# Altium integrated library 普中-2&普中-3&普中-4封装库.IntLib: 42 symbols
Pins are listed as number, name and electrical type; pins without a type are passive.

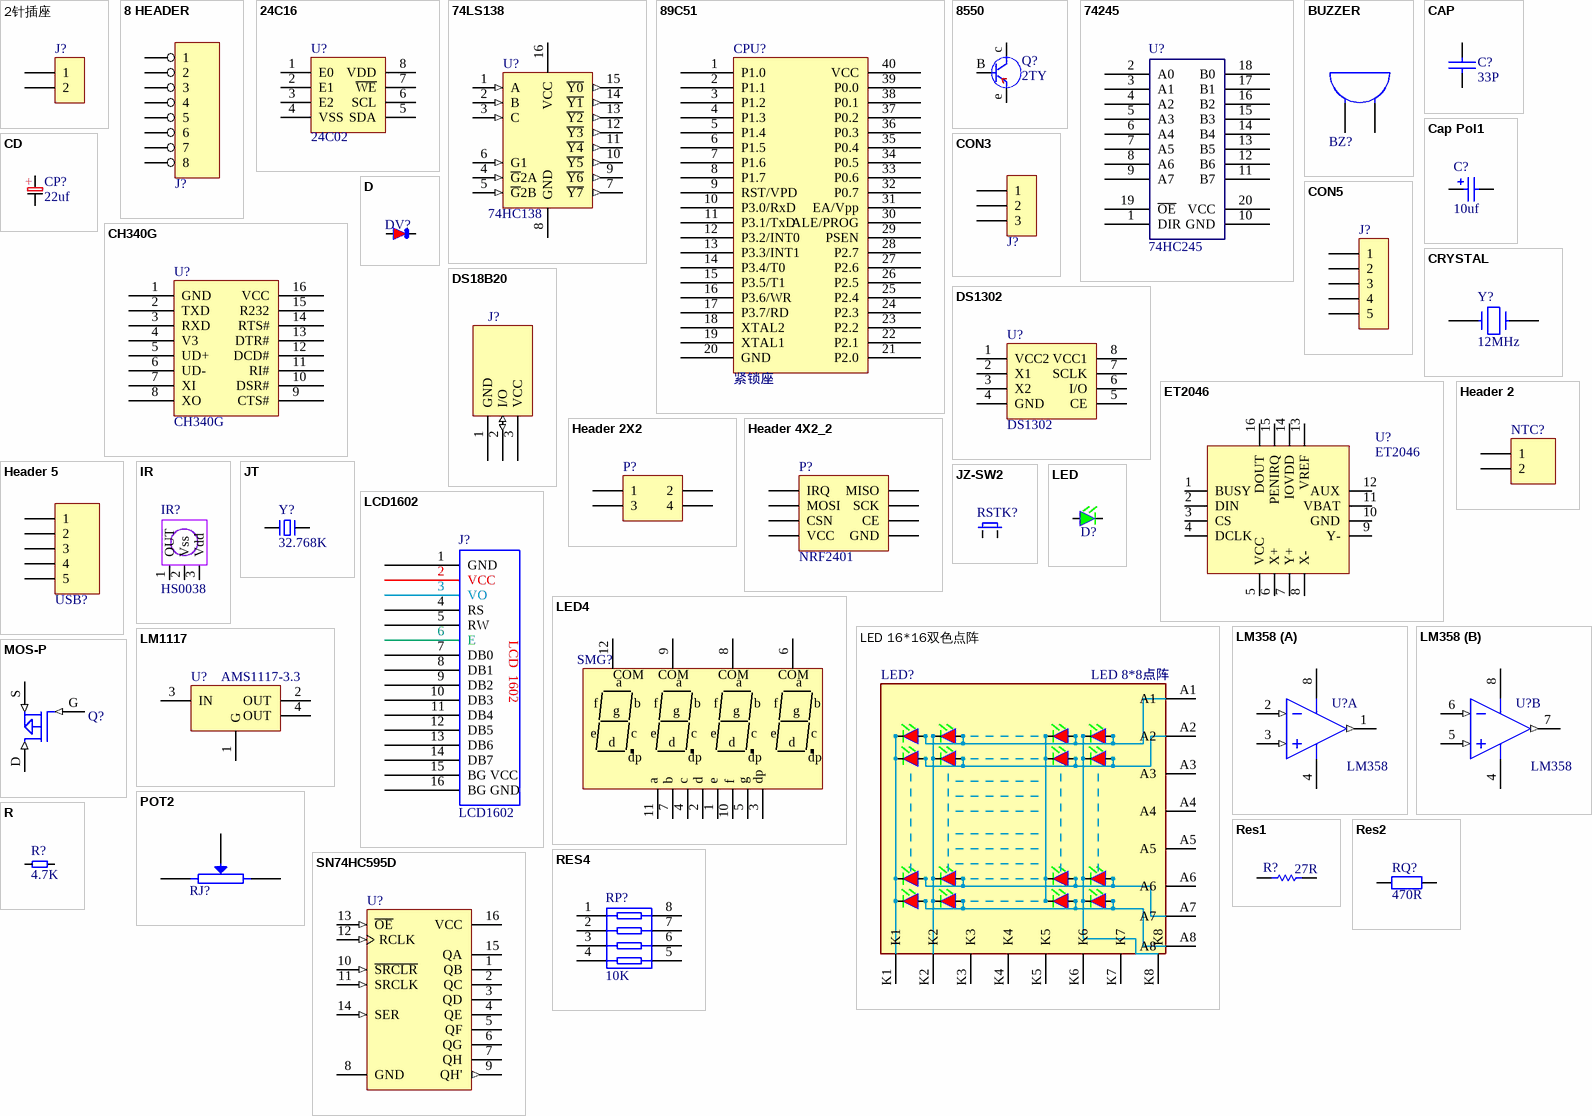
[diagram p0: symbols 2针插座 to SN74HC595D]

## 2针插座
designator J?, comment SIP2  (value not drawn)
footprint SIP2
pins: 1, 2

## 8 HEADER
designator J?, comment SIP8  (value not drawn)
8 Pin Header
footprint SIP8
pins: 1, 2, 3, 4, 5, 6, 7, 8

## 24C16
designator U?, comment 24C02
footprint SO-8
pins: 1 E0, 2 E1, 3 E2, 4 VSS, 5 SDA, 6 SCL, 7 ~{WE}, 8 VDD

## 74LS138
designator U?, comment 74HC138
3-Line to 8-Line Decoder/Demultiplexer
footprint DIP-16
simulation model 74LS138 (SIMCODE)
footprint SO-16
pins: 1 A (in), 2 B (in), 3 C (in), 4 ~{G}2A (in), 5 ~{G}2B (in), 6 G1 (in), 7 ~{Y7} (out), 8 GND (power), 9 ~{Y6} (out), 10 ~{Y5} (out), 11 ~{Y4} (out), 12 ~{Y3} (out), 13 ~{Y2} (out), 14 ~{Y1} (out), 15 ~{Y0} (out), 16 VCC (power)
1 alternate drawing of the same symbol

## 89C51
designator CPU?, comment 紧锁座
U
footprint DIP40
footprint ZIF40 - D
pins: 1 P1.0, 2 P1.1, 3 P1.2, 4 P1.3, 5 P1.4, 6 P1.5, 7 P1.6, 8 P1.7, 9 RST/VPD, 10 P3.0/RxD, 11 P3.1/TxD, 12 P3.2/INT0, 13 P3.3/INT1, 14 P3.4/T0, 15 P3.5/T1, 16 P3.6/WR, 17 P3.7/RD, 18 XTAL2, 19 XTAL1, 20 GND, 21 P2.0, 22 P2.1, 23 P2.2, 24 P2.3, 25 P2.4, 26 P2.5, 27 P2.6, 28 P2.7, 29 PSEN, 30 ALE/PROG, 31 EA/Vpp, 32 P0.7, 33 P0.6, 34 P0.5, 35 P0.4, 36 P0.3, 37 P0.2, 38 P0.1, 39 P0.0, 40 VCC

## 8550
designator Q?, comment 2TY
value: 8550-NPN
footprint NPN-2TY
pins: B b, c, e

## 74245
designator U?, comment 74HC245
footprint SO20W
footprint SOP20(74HC245) - duplicate
pins: 1 DIR, 2 A0, 3 A1, 4 A2, 5 A3, 6 A4, 7 A5, 8 A6, 9 A7, 10 GND, 11 B7, 12 B6, 13 B5, 14 B4, 15 B3, 16 B2, 17 B1, 18 B0, 19 ~{OE}, 20 VCC

## BUZZER
designator BZ?, comment 蜂鸣器  (value not drawn)
Buzzer
footprint L101
pins: 1 A, 2 B

## CAP
designator C?, comment 33P
Capacitor; value: 33P
footprint 0603
pins: 1, 2

## Cap Pol1
designator C?, comment 10uf
Polarized Capacitor (Radial); Value: 插件10uF; Published: *; LatestRevisionDate: *; LatestRevisionNote: *; Publisher: *
footprint C10U
footprint CAPPR1.27-1.7x2.8
footprint CAPPR1.5-4x5
footprint CAPPR2-5x6.8
footprint CD4
pins: 1, 2
2 alternate drawings of the same symbol

## CD
designator CP?, comment 22uf
value: 插件470uF
footprint CD4
footprint CD8
footprint CD5
pins: 1, 2
text: +

## CH340G
designator U?
footprint SOP-16
pins: 1 GND, 2 TXD, 3 RXD, 4 V3, 5 UD+, 6 UD-, 7 XI, 8 XO, 9 CTS#, 10 DSR#, 11 RI#, 12 DCD#, 13 DTR#, 14 RTS#, 15 R232, 16 VCC

## CON3
designator J?, comment SIP3  (value not drawn)
Connector
footprint SIP3
pins: 1, 2, 3

## CON5
designator J?, comment 插槽SIP5  (value not drawn)
Connector
footprint HEADER_BIG 5
footprint SIP5
pins: 1, 2, 3, 4, 5

## CRYSTAL
designator Y?, comment 12MHz
Crystal; value: 12M
footprint RAD-0.2 (Jumper Wire; 2 Leads)
footprint 晶振
footprint HDR1X3
pins: 1, 3

## D
designator DV?, comment IN4148  (value not drawn)
value: IN4148
footprint 4148
footprint 4007
footprint D1808A
pins: 1, 2

## DS18B20
designator J?  (value not drawn)
footprint IR1; pin to pad 1>3 3>1
pins: 1 GND (power), 2 I/O (io), 3 VCC (power)

## DS1302
designator U?
footprint SO-8
pins: 1 VCC2, 2 X1, 3 X2, 4 GND, 5 CE, 6 I/O, 7 SCLK, 8 VCC1

## ET2046
designator U?
footprint QFN16-XPT2046
footprint QFN16-XPT2046_1
footprint QFN16-XPT2046_2
footprint QFN16-XPT2046
pins: 1 BUSY, 2 DIN, 3 CS, 4 DCLK, 5 VCC, 6 X+, 7 Y+, 8 X-, 9 Y-, 10 GND, 11 VBAT, 12 AUX, 13 VREF, 14 IOVDD, 15 PENIRQ, 16 DOUT

## Header 2
designator NTC?, comment 热敏电阻  (value not drawn)
Header, 2-Pin; LatestRevisionDate: 17-Jul-2002; LatestRevisionNote: Re-released for DXP Platform.; Publisher: Altium Limited
signal-integrity model Connector
footprint SIP2
pins: 1, 2

## Header 2X2
designator P?
Header, 2-Pin, Dual row; LatestRevisionDate: 17-Jul-2002; LatestRevisionNote: Re-released for DXP Platform.; Publisher: Altium Limited
footprint HDR2X2 (Connector; Header; 2x2 Position)
pins: 1, 2, 3, 4

## Header 4X2_2
designator P?, comment NRF2401
Header, 4-Pin, Dual row; LatestRevisionDate: 17-Jul-2002; LatestRevisionNote: Re-released for DXP Platform.; Publisher: Altium Limited
footprint HDR2X4 (Connector; Header; 4x2 Position)
signal-integrity model Connector
pins: 1 GND, 2 VCC, 3 CE, 4 CSN, 5 SCK, 6 MOSI, 7 MISO, 8 IRQ

## Header 5
designator USB?, comment MiniUSB  (value not drawn)
Header, 5-Pin; LatestRevisionDate: 17-Jul-2002; LatestRevisionNote: Re-released for DXP Platform.; Publisher: Altium Limited
footprint MINIUSB_5PIN_4Pad_New
pins: 1, 2, 3, 4, 5

## IR
designator IR?, comment HS0038
footprint IR1
pins: 1 OUT, 2 Vss, 3 Vdd

## JT
designator Y?, comment 32.768K
value: 32.768K
footprint JZ
footprint CC0.254
pins: 1, 2

## JZ-SW2
designator RSTK?, comment 按键  (value not drawn)
footprint JZ-SW2
pins: 1, 2

## LCD1602
designator J?
footprint SIP16
pins: 1 GND, 2 VCC, 3 VO, 4 RS, 5 RW, 6 E, 7 DB0, 8 DB1, 9 DB2, 10 DB3, 11 DB4, 12 DB5, 13 DB6, 14 DB7, 15 BG VCC, 16 BG GND
text: LCD  1602

## LED
designator D?, comment LED红  (value not drawn)
footprint LED0603
pins: A a, K k

## LED4
designator SMG?  (value not drawn)
footprint 3.684 - D
pins: 1 e, 2 d, 3 dp, 4 c, 5 g, 6 VCC, 7 b, 8 VCC, 9 VCC, 10 f, 11 a, 12 COM

## LED 16*16双色点阵
designator LED?, comment LED 8*8点阵
footprint PCBComponent_1
pins: A1, A2, A3, A4, A5, A6, A7, A8, K1, K2, K3, K4, K5, K6, K7, K8

## LM358
designator U?
Fast Settling Dual Operational Amplifier
footprint CAN_8
footprint SO-8
footprint SO8
part A pins: 1 OUT1 (out), 2 IN1- (in), 3 IN1+ (in), 4 V- (power), 8 V+ (power)
part B pins: 4 V- (power), 5 IN2+ (in), 6 IN2- (in), 7 OUT2 (out), 8 V+ (power)
2 alternate drawings of the same symbol

## LM1117
designator U?, comment AMS1117-3.3
LINER REG
footprint SOT261
pins: 1 G, 2 OUT, 3 IN, 4 OUT
2 alternate drawings of the same symbol

## MOS-P
designator Q?  (value not drawn)
footprint MOS-P
footprint MOS-P
pins: D (in), G (in), S (in)

## POT2
designator RJ?, comment 电位器502  (value not drawn)
Potentiometer
footprint WR2
pins: 1, 2, 3 W

## R
designator R?, comment 4.7K
footprint 1/8W
footprint 1/4W
footprint R3
footprint 0603
pins: 1, 2

## Res1
designator R?, comment 27R
Resistor; Published: 8-Jun-2000; LatestRevisionDate: 17-Jul-2002; LatestRevisionNote: Re-released for DXP Platform.; PackageReference: AXIAL-0.3; Publisher: Altium Limited; Value: 27R
footprint 0603
pins: 1, 2

## Res2
designator RQ?, comment 470R
Resistor; Published: 8-Jun-2000; LatestRevisionDate: 17-Jul-2002; LatestRevisionNote: Re-released for DXP Platform.; PackageReference: AXIAL-0.4; Publisher: Altium Limited; Value: 470R
footprint 0603
pins: 1, 2

## RES4
designator RP?, comment value 10K  (hidden comment: 排阻10K)
footprint 0603-4; pin to pad 1>4 2>3 3>2 4>1 5>8 6>7 7>6 8>5
pins: 1, 2, 3, 4, 5, 6, 7, 8

## SN74HC595D
designator U?, comment 74HC595(A)  (value not drawn)
8-Bit Shift Register with 3-State Output Registers; Published: 8-Jun-2000; LatestRevisionDate: 17-Jul-2002; LatestRevisionNote: Re-released for DXP Platform.; DatasheetDocument: May-1997; PackageDocument: Jan-1998; PackageReference: D016; Publisher: Altium Limited
footprint SO16
footprint SO-16
pins: 1 QB (hiz), 2 QC (hiz), 3 QD (hiz), 4 QE (hiz), 5 QF (hiz), 6 QG (hiz), 7 QH (hiz), 8 GND (power), 9 QH' (out), 10 ~{SRCLR} (in), 11 SRCLK (in), 12 RCLK (in), 13 ~{OE} (in), 14 SER (in), 15 QA (hiz), 16 VCC (power)
2 alternate drawings of the same symbol

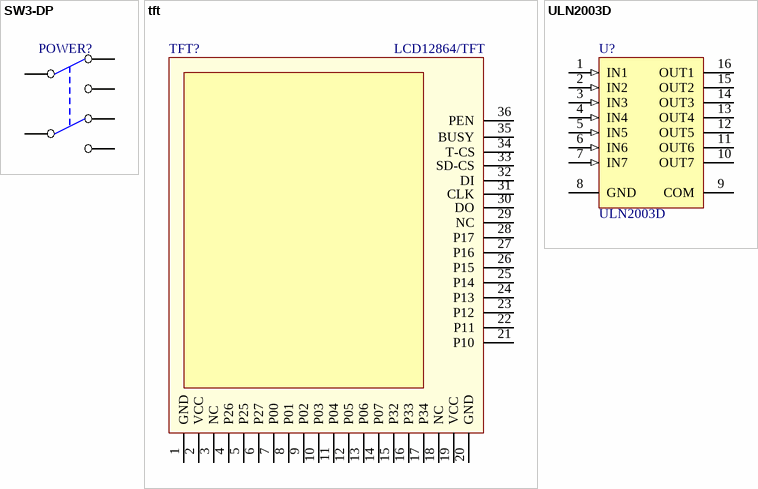
[diagram p1: symbols SW3-DP to ULN2003D]

## SW3-DP
designator POWER?, comment 自锁开关  (value not drawn)
footprint SW6
pins: 1 NC1, 2 COMMON1, 3 NO1, 4 NO2, 5 COMMON2, 6 NC2

## tft
designator TFT?, comment LCD12864/TFT
footprint TFT026
pins: 1 GND, 2 VCC, 3 NC, 4 P26, 5 P25, 6 P27, 7 P00, 8 P01, 9 P02, 10 P03, 11 P04, 12 P05, 13 P06, 14 P07, 15 P32, 16 P33, 17 P34, 18 NC, 19 VCC, 20 GND, 21 P10, 22 P11, 23 P12, 24 P13, 25 P14, 26 P15, 27 P16, 28 P17, 29 NC, 30 DO, 31 CLK, 32 DI, 33 SD-CS, 34 T-CS, 35 BUSY, 36 PEN

## ULN2003D
designator U?
Seven Darlington Array; Published: 8-Jun-2000; LatestRevisionDate: 17-Jul-2002; LatestRevisionNote: Re-released for DXP Platform.; DatasheetDocument: Sep-1998; PackageDocument: May-1998; PackageReference: SO16; Publisher: Altium Limited
footprint SO16
footprint SO-16
pins: 1 IN1 (in), 2 IN2 (in), 3 IN3 (in), 4 IN4 (in), 5 IN5 (in), 6 IN6 (in), 7 IN7 (in), 8 GND (power), 9 COM, 10 OUT7 (oc), 11 OUT6 (oc), 12 OUT5 (oc), 13 OUT4 (oc), 14 OUT3 (oc), 15 OUT2 (oc), 16 OUT1 (oc)
2 alternate drawings of the same symbol